# Altium footprint library QFN.PcbLib: 11 footprints
Each footprint in its own frame and in the unit in brackets; x right, y up, seen from the top. Pads: shape width x height; smd on the part's side, far side on the other; paste and mask are expansions set on the pad; w line width, h text height; cw(c..) or ccw(c..) is an arc to the next point about the centre after c.
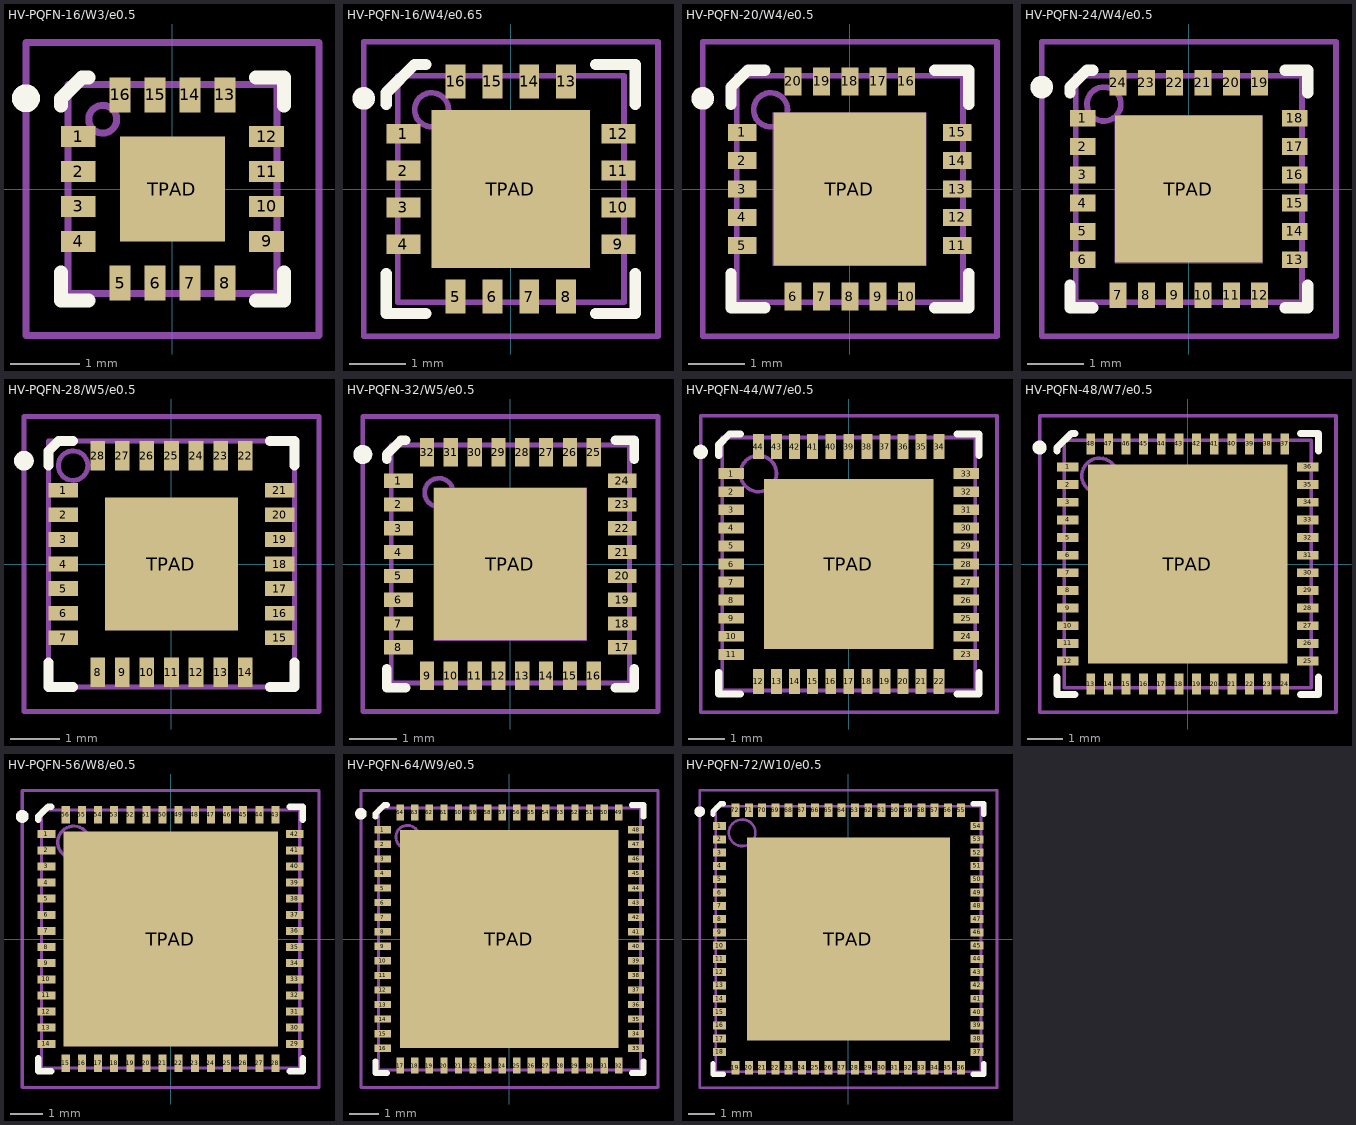
[diagram p0: the footprints below, top view; thin cyan lines are the x and y axes]

## HV-PQFN-16/W3/e0.5 [mm] "QFN-16; JEDEC MO-220-VEED-4; Body 3.00x3.00x0.85mm; Pitch 0.5mm;"
height 0.85
pads (17):
  rect 0.5x0.3 smd mask+0.1: 1(-1.35,0.75) 2(-1.35,0.25) 3(-1.35,-0.25) 4(-1.35,-0.75) 9(1.35,-0.75) 10(1.35,-0.25) 11(1.35,0.25) 12(1.35,0.75)
  rect 0.3x0.5 smd mask+0.1: 5(-0.75,-1.35) 6(-0.25,-1.35) 7(0.25,-1.35) 8(0.75,-1.35) 13(0.75,1.35) 14(0.25,1.35) 15(-0.25,1.35) 16(-0.75,1.35)
  rect 1.5x1.5 smd mask+0.1: TPAD(0,0)
Top Overlay:
  circle w0.2: c-2.1,1.3 r0.1
  lines w0.2: -1.6,-1.2 -1.6,-1.6 -1.2,-1.6 ; -1.6,1.2 -1.6,1.3 -1.3,1.6 -1.2,1.6 ; 1.2,-1.6 1.6,-1.6 1.6,-1.2 ; 1.2,1.6 1.6,1.6 1.6,1.2
Package:
  circle w0.1: c-1,1 r0.2
  lines w0.1: -1.5,-1.5 1.5,-1.5 1.5,1.5 -1.5,1.5 -1.5,-1.5
Courtyard:
  lines w0.1: -0.5,0 0.5,0 ; 0,-0.5 0,0.5 ; -2.1,-2.1 2.1,-2.1 2.1,2.1 -2.1,2.1 -2.1,-2.1
3D body: height 0.85, standoff 0.01, extent -1.5,-1.5 1.5,1.5

## HV-PQFN-16/W4/e0.65 [mm] "QFN-16; JEDEC MO-220-VGGC-3; Body 4.00x4.00x1.00mm; Pitch 0.65mm;"
height 1
pads (17):
  rect 0.6x0.35 smd mask+0.1: 1(-1.9,0.975) 2(-1.9,0.325) 3(-1.9,-0.325) 4(-1.9,-0.975) 9(1.9,-0.975) 10(1.9,-0.325) 11(1.9,0.325) 12(1.9,0.975)
  rect 0.35x0.6 smd mask+0.1: 5(-0.975,-1.9) 6(-0.325,-1.9) 7(0.325,-1.9) 8(0.975,-1.9) 13(0.975,1.9) 14(0.325,1.9) 15(-0.325,1.9) 16(-0.975,1.9)
  rect 2.8x2.8 smd mask+0.1: TPAD(0,0)
Top Overlay:
  circle w0.2: c-2.6,1.6 r0.1
  lines w0.2: -2.2,-1.5 -2.2,-2.2 -1.5,-2.2 ; -2.2,1.5 -2.2,1.7 -1.7,2.2 -1.5,2.2 ; 1.5,-2.2 2.2,-2.2 2.2,-1.5 ; 1.5,2.2 2.2,2.2 2.2,1.5
Package:
  circle w0.1: c-1.4,1.4 r0.3
  lines w0.1: -2,-2 -2,2 2,2 2,-2 -2,-2
Courtyard:
  lines w0.1: -0.5,0 0.5,0 ; 0,-0.5 0,0.5 ; -2.6,-2.6 2.6,-2.6 2.6,2.6 -2.6,2.6 -2.6,-2.6
3D body: height 1, standoff 0, extent -2,-2 2,2

## HV-PQFN-20/W4/e0.5 [mm] "QFN-20; JEDEC MO-220-VGGD-5; Body 4.00x4.00x1.00mm; Pitch 0.5mm;"
height 1
pads (21):
  rect 0.5x0.3 smd mask+0.1: 1(-1.9,1) 2(-1.9,0.5) 3(-1.9,0) 4(-1.9,-0.5) 5(-1.9,-1) 11(1.9,-1) 12(1.9,-0.5) 13(1.9,0) 14(1.9,0.5) 15(1.9,1)
  rect 0.3x0.5 smd mask+0.1: 6(-1,-1.9) 7(-0.5,-1.9) 8(0,-1.9) 9(0.5,-1.9) 10(1,-1.9) 16(1,1.9) 17(0.5,1.9) 18(0,1.9) 19(-0.5,1.9) 20(-1,1.9)
  rect 2.7x2.7 smd paste-1.35 mask+0: TPAD(0,0)
Top Overlay:
  circle w0.2: c-2.6,1.6 r0.1
  lines w0.2: -2.1,-1.5 -2.1,-2.1 -1.5,-2.1 ; -2.1,1.5 -2.1,1.8 -1.8,2.1 -1.5,2.1 ; 1.5,-2.1 2.1,-2.1 2.1,-1.5 ; 1.5,2.1 2.1,2.1 2.1,1.5
Top Paste:
  rectangle: 0.5,-1.15 1.1,-0.85
  rectangle: -0.3,-1.15 0.3,-0.85
  rectangle: -1.1,-1.15 -0.5,-0.85
  rectangle: 0.5,-0.65 1.1,-0.35
  rectangle: -1.1,-0.65 -0.5,-0.35
  rectangle: -0.3,-0.65 0.3,-0.35
  rectangle: 0.5,-0.15 1.1,0.15
  rectangle: -0.3,-0.15 0.3,0.15
  rectangle: -1.1,-0.15 -0.5,0.15
  rectangle: -1.1,0.35 -0.5,0.65
  rectangle: -0.3,0.35 0.3,0.65
  rectangle: 0.5,0.35 1.1,0.65
  rectangle: 0.5,0.85 1.1,1.15
  rectangle: -0.3,0.85 0.3,1.15
  rectangle: -1.1,0.85 -0.5,1.15
Package:
  circle w0.1: c-1.4,1.4 r0.3
  lines w0.1: -2,-2 -2,2 2,2 2,-2 -2,-2
Courtyard:
  lines w0.01: -1.35,-1.35 1.35,-1.35 1.35,1.35 -1.35,1.35 -1.35,-1.35
  lines w0.1: -0.5,0 0.5,0 ; 0,-0.5 0,0.5 ; -2.6,-2.6 -2.6,2.6 2.6,2.6 2.6,-2.6 -2.6,-2.6
  text "COPPER PLANE" at -0.7,1.2 h0.1
3D body: height 1, standoff 0, extent -2,-2 2,2

## HV-PQFN-24/W4/e0.5 [mm] "QFN-24; JEDEC MO-220-VGGD-6; Body 4.00x4.00x1.00mm; Pitch 0.5mm;"
height 1
pads (25):
  rect 0.45x0.3 smd mask+0.1: 1(-1.875,1.25) 2(-1.875,0.75) 3(-1.875,0.25) 4(-1.875,-0.25) 5(-1.875,-0.75) 6(-1.875,-1.25) 13(1.875,-1.25) 14(1.875,-0.75) 15(1.875,-0.25) 16(1.875,0.25) 17(1.875,0.75) 18(1.875,1.25)
  rect 0.3x0.45 smd mask+0.1: 7(-1.25,-1.875) 8(-0.75,-1.875) 9(-0.25,-1.875) 10(0.25,-1.875) 11(0.75,-1.875) 12(1.25,-1.875) 19(1.25,1.875) 20(0.75,1.875) 21(0.25,1.875) 22(-0.25,1.875) 23(-0.75,1.875) 24(-1.25,1.875)
  rect 2.6x2.6 smd paste-1.3 mask+0: TPAD(0,0)
Top Overlay:
  circle w0.2: c-2.6,1.8 r0.1
  lines w0.2: -2.1,-1.7 -2.1,-2.1 -1.7,-2.1 ; -2.1,1.7 -2.1,1.8 -1.8,2.1 -1.7,2.1 ; 1.7,-2.1 2.1,-2.1 2.1,-1.7 ; 1.7,2.1 2.1,2.1 2.1,1.7
Top Paste:
  rectangle: -0.95,0.85 -0.5,1.15
  rectangle: -0.225,0.85 0.225,1.15
  rectangle: 0.5,0.85 0.95,1.15
  rectangle: 0.5,0.35 0.95,0.65
  rectangle: -0.225,0.35 0.225,0.65
  rectangle: -0.95,0.35 -0.5,0.65
  rectangle: -0.95,-0.15 -0.5,0.15
  rectangle: -0.225,-0.15 0.225,0.15
  rectangle: 0.5,-0.15 0.95,0.15
  rectangle: -0.95,-0.65 -0.5,-0.35
  rectangle: -0.225,-0.65 0.225,-0.35
  rectangle: 0.5,-0.65 0.95,-0.35
  rectangle: -0.95,-1.15 -0.5,-0.85
  rectangle: -0.225,-1.15 0.225,-0.85
  rectangle: 0.5,-1.15 0.95,-0.85
Package:
  circle w0.1: c-1.5,1.5 r0.3
  lines w0.1: -2,-2 2,-2 2,2 -2,2 -2,-2
Courtyard:
  lines w0.01: -1.3,-1.3 1.3,-1.3 1.3,1.3 -1.3,1.3 -1.3,-1.3
  lines w0.1: -0.5,0 0.5,0 ; 0,-0.5 0,0.5 ; -2.6,-2.6 2.6,-2.6 2.6,2.6 -2.6,2.6 -2.6,-2.6
  text "COPPER PLANE" at -0.6,1.2 h0.1
3D body: height 1, standoff 0, extent -2,-2 2,2

## HV-PQFN-28/W5/e0.5 [mm] "QFN-28; JEDEC MO-220-VHHD-1; Body 5.00x5.00x1.00mm; Pitch 0.5mm;"
height 1
pads (29):
  rect 0.6x0.3 smd mask+0.1: 1(-2.2,1.5) 2(-2.2,1) 3(-2.2,0.5) 4(-2.2,0) 5(-2.2,-0.5) 6(-2.2,-1) 7(-2.2,-1.5) 15(2.2,-1.5) 16(2.2,-1) 17(2.2,-0.5) 18(2.2,0) 19(2.2,0.5) 20(2.2,1) 21(2.2,1.5)
  rect 0.3x0.6 smd mask+0.1: 8(-1.5,-2.2) 9(-1,-2.2) 10(-0.5,-2.2) 11(0,-2.2) 12(0.5,-2.2) 13(1,-2.2) 14(1.5,-2.2) 22(1.5,2.2) 23(1,2.2) 24(0.5,2.2) 25(0,2.2) 26(-0.5,2.2) 27(-1,2.2) 28(-1.5,2.2)
  rect 2.7x2.7 smd mask+0.1: TPAD(0,0)
Top Overlay:
  circle w0.2: c-3,2.1 r0.1
  lines w0.2: -2.5,-2 -2.5,-2.5 -2,-2.5 ; -2.5,2 -2.5,2.3 -2.3,2.5 -2,2.5 ; 2,-2.5 2.5,-2.5 2.5,-2 ; 2,2.5 2.5,2.5 2.5,2
Package:
  circle w0.1: c-2,2 r0.3
  lines w0.1: -2.5,-2.5 -2.5,2.5 2.5,2.5 2.5,-2.5 -2.5,-2.5
Courtyard:
  lines w0.1: -0.5,0 0.5,0 ; 0,-0.5 0,0.5 ; -3,-3 -3,3 3,3 3,-3 -3,-3
3D body: height 1, standoff 0, extent -2.5,-2.5 2.5,2.5

## HV-PQFN-32/W5/e0.5 [mm] "QFN-32; JEDEC MO-220-VHHD-5; Body 5.0x5.0x1.00mm; Pitch 0.5mm"
height 1
pads (33):
  rect 0.6x0.3 smd mask+0.1: 1(-2.35,1.75) 2(-2.35,1.25) 3(-2.35,0.75) 4(-2.35,0.25) 5(-2.35,-0.25) 6(-2.35,-0.75) 7(-2.35,-1.25) 8(-2.35,-1.75) 17(2.35,-1.75) 18(2.35,-1.25) 19(2.35,-0.75) 20(2.35,-0.25) 21(2.35,0.25) 22(2.35,0.75) 23(2.35,1.25) 24(2.35,1.75)
  rect 0.3x0.6 smd mask+0.1: 9(-1.75,-2.35) 10(-1.25,-2.35) 11(-0.75,-2.35) 12(-0.25,-2.35) 13(0.25,-2.35) 14(0.75,-2.35) 15(1.25,-2.35) 16(1.75,-2.35) 25(1.75,2.35) 26(1.25,2.35) 27(0.75,2.35) 28(0.25,2.35) 29(-0.25,2.35) 30(-0.75,2.35) 31(-1.25,2.35) 32(-1.75,2.35)
  rect 3.2x3.2 smd paste-1.6 mask+0: TPAD(0,0)
Top Overlay:
  circle w0.2: c-3.1,2.3 r0.1
  lines w0.2: -2.6,-2.2 -2.6,-2.6 -2.2,-2.6 ; -2.6,2.2 -2.6,2.3 -2.3,2.6 -2.2,2.6 ; 2.2,-2.6 2.6,-2.6 2.6,-2.2 ; 2.2,2.6 2.6,2.6 2.6,2.2
Top Paste:
  rectangle: 0.7,-1.4 1.3,-1.1
  rectangle: -0.3,-1.4 0.3,-1.1
  rectangle: -1.3,-1.4 -0.7,-1.1
  rectangle: 0.7,-0.9 1.3,-0.6
  rectangle: -0.3,-0.9 0.3,-0.6
  rectangle: -1.3,-0.9 -0.7,-0.6
  rectangle: 0.7,-0.4 1.3,-0.1
  rectangle: -0.3,-0.4 0.3,-0.1
  rectangle: -1.3,-0.4 -0.7,-0.1
  rectangle: 0.7,0.1 1.3,0.4
  rectangle: -0.3,0.1 0.3,0.4
  rectangle: -1.3,0.1 -0.7,0.4
  rectangle: 0.7,0.6 1.3,0.9
  rectangle: -0.3,0.6 0.3,0.9
  rectangle: -1.3,0.6 -0.7,0.9
  rectangle: 0.7,1.1 1.3,1.4
  rectangle: -0.3,1.1 0.3,1.4
  rectangle: -1.3,1.1 -0.7,1.4
Package:
  circle w0.1: c-1.5,1.5 r0.3
  lines w0.1: -2.5,-2.5 2.5,-2.5 2.5,2.5 -2.5,2.5 -2.5,-2.5
Courtyard:
  lines w0.01: -1.6,-1.6 -1.6,1.6 1.6,1.6 1.6,-1.6 -1.6,-1.6
  lines w0.1: -0.5,0 0.5,0 ; 0,-0.5 0,0.5 ; -3.1,-3.1 3.1,-3.1 3.1,3.1 -3.1,3.1 -3.1,-3.1
  text "COPPER PLANE" at -0.6,1.5 h0.1
3D body: height 1, standoff 0, extent -2.5,-2.5 2.5,2.5

## HV-PQFN-44/W7/e0.5 [mm] "QFN-44; JEDEC MO-220-WKKD-1; Body 7.0x7.0x0.85mm; Pitch 0.5mm"
height 0.85
pads (45):
  rect 0.7x0.3 smd mask+0.1: 1(-3.25,2.5) 2(-3.25,2) 3(-3.25,1.5) 4(-3.25,1) 5(-3.25,0.5) 6(-3.25,0) 7(-3.25,-0.5) 8(-3.25,-1) 9(-3.25,-1.5) 10(-3.25,-2) 11(-3.25,-2.5) 23(3.25,-2.5) 24(3.25,-2) 25(3.25,-1.5) 26(3.25,-1) 27(3.25,-0.5) 28(3.25,0) 29(3.25,0.5) 30(3.25,1) 31(3.25,1.5) 32(3.25,2) 33(3.25,2.5)
  rect 0.3x0.7 smd mask+0.1: 12(-2.5,-3.25) 13(-2,-3.25) 14(-1.5,-3.25) 15(-1,-3.25) 16(-0.5,-3.25) 17(0,-3.25) 18(0.5,-3.25) 19(1,-3.25) 20(1.5,-3.25) 21(2,-3.25) 22(2.5,-3.25) 34(2.5,3.25) 35(2,3.25) 36(1.5,3.25) 37(1,3.25) 38(0.5,3.25) 39(0,3.25) 40(-0.5,3.25) 41(-1,3.25) 42(-1.5,3.25) 43(-2,3.25) 44(-2.5,3.25)
  rect 4.7x4.7 smd mask+0.1: TPAD(0,0)
Top Overlay:
  circle w0.2: c-4.1,3.1 r0.1
  lines w0.2: -3.6,-3 -3.6,-3.6 -3,-3.6 ; -3.6,3 -3.6,3.3 -3.3,3.6 -3,3.6 ; 3,-3.6 3.6,-3.6 3.6,-3 ; 3,3.6 3.6,3.6 3.6,3
Package:
  circle w0.1: c-2.5,2.5 r0.5
  lines w0.1: -3.5,-3.5 3.5,-3.5 3.5,3.5 -3.5,3.5 -3.5,-3.5
Courtyard:
  lines w0.1: -0.5,0 0.5,0 ; 0,-0.5 0,0.5 ; -4.1,-4.1 -4.1,4.1 4.1,4.1 4.1,-4.1 -4.1,-4.1
3D body: height 0.85, standoff 0.02, extent -3.5,-3.5 3.5,3.5

## HV-PQFN-48/W7/e0.5 [mm] "QFN-48; JEDEC MO-220-VKKD-4; Body 7.0x7.0x1.00mm; Pitch 0.5mm"
height 1
pads (49):
  rect 0.6x0.25 smd mask+0.1: 1(-3.4,2.75) 2(-3.4,2.25) 3(-3.4,1.75) 4(-3.4,1.25) 5(-3.4,0.75) 6(-3.4,0.25) 7(-3.4,-0.25) 8(-3.4,-0.75) 9(-3.4,-1.25) 10(-3.4,-1.75) 11(-3.4,-2.25) 12(-3.4,-2.75) 25(3.4,-2.75) 26(3.4,-2.25) 27(3.4,-1.75) 28(3.4,-1.25) 29(3.4,-0.75) 30(3.4,-0.25) 31(3.4,0.25) 32(3.4,0.75) 33(3.4,1.25) 34(3.4,1.75) 35(3.4,2.25) 36(3.4,2.75)
  rect 0.25x0.6 smd mask+0.1: 13(-2.75,-3.4) 14(-2.25,-3.4) 15(-1.75,-3.4) 16(-1.25,-3.4) 17(-0.75,-3.4) 18(-0.25,-3.4) 19(0.25,-3.4) 20(0.75,-3.4) 21(1.25,-3.4) 22(1.75,-3.4) 23(2.25,-3.4) 24(2.75,-3.4) 37(2.75,3.4) 38(2.25,3.4) 39(1.75,3.4) 40(1.25,3.4) 41(0.75,3.4) 42(0.25,3.4) 43(-0.25,3.4) 44(-0.75,3.4) 45(-1.25,3.4) 46(-1.75,3.4) 47(-2.25,3.4) 48(-2.75,3.4)
  rect 5.65x5.65 smd mask+0.1: TPAD(0,0)
Top Overlay:
  circle w0.2: c-4.2,3.3 r0.1
  lines w0.2: -3.7,-3.2 -3.7,-3.7 -3.2,-3.7 ; -3.7,3.2 -3.7,3.3 -3.3,3.7 -3.2,3.7 ; 3.2,-3.7 3.7,-3.7 3.7,-3.2 ; 3.2,3.7 3.7,3.7 3.7,3.2
Package:
  circle w0.1: c-2.5,2.5 r0.5
  lines w0.1: -3.5,-3.5 -3.5,3.5 3.5,3.5 3.5,-3.5 -3.5,-3.5
Courtyard:
  lines w0.1: -0.5,0 0.5,0 ; 0,-0.5 0,0.5 ; -4.2,-4.2 -4.2,4.2 4.2,4.2 4.2,-4.2 -4.2,-4.2
3D body: height 1, standoff 0, extent -3.5,-3.5 3.5,3.5

## HV-PQFN-56/W8/e0.5 [mm] "QFN-56; JEDEC MO-220-VLLD-5; Body 8.0x8.0x1.00mm; Pitch 0.5mm"
height 1
pads (57):
  rect 0.55x0.25 smd mask+0.1: 1(-3.85,3.25) 2(-3.85,2.75) 3(-3.85,2.25) 4(-3.85,1.75) 5(-3.85,1.25) 6(-3.85,0.75) 7(-3.85,0.25) 8(-3.85,-0.25) 9(-3.85,-0.75) 10(-3.85,-1.25) 11(-3.85,-1.75) 12(-3.85,-2.25) 13(-3.85,-2.75) 14(-3.85,-3.25) 29(3.85,-3.25) 30(3.85,-2.75) 31(3.85,-2.25) 32(3.85,-1.75) 33(3.85,-1.25) 34(3.85,-0.75) 35(3.85,-0.25) 36(3.85,0.25) 37(3.85,0.75) 38(3.85,1.25) 39(3.85,1.75) 40(3.85,2.25) 41(3.85,2.75) 42(3.85,3.25)
  rect 0.25x0.55 smd mask+0.1: 15(-3.25,-3.85) 16(-2.75,-3.85) 17(-2.25,-3.85) 18(-1.75,-3.85) 19(-1.25,-3.85) 20(-0.75,-3.85) 21(-0.25,-3.85) 22(0.25,-3.85) 23(0.75,-3.85) 24(1.25,-3.85) 25(1.75,-3.85) 26(2.25,-3.85) 27(2.75,-3.85) 28(3.25,-3.85) 43(3.25,3.85) 44(2.75,3.85) 45(2.25,3.85) 46(1.75,3.85) 47(1.25,3.85) 48(0.75,3.85) 49(0.25,3.85) 50(-0.25,3.85) 51(-0.75,3.85) 52(-1.25,3.85) 53(-1.75,3.85) 54(-2.25,3.85) 55(-2.75,3.85) 56(-3.25,3.85)
  rect 6.65x6.65 smd mask+0.1: TPAD(0,0)
Top Overlay:
  circle w0.2: c-4.6,3.8 r0.1
  lines w0.2: -4.1,-3.7 -4.1,-4.1 -3.7,-4.1 ; -4.1,3.7 -4.1,3.8 -3.8,4.1 -3.7,4.1 ; 3.7,-4.1 4.1,-4.1 4.1,-3.7 ; 3.7,4.1 4.1,4.1 4.1,3.7
Package:
  circle w0.1: c-3,3 r0.5
  lines w0.1: -4,-4 4,-4 4,4 -4,4 -4,-4
Courtyard:
  lines w0.1: -0.5,0 0.5,0 ; 0,-0.5 0,0.5 ; -4.6,-4.6 -4.6,4.6 4.6,4.6 4.6,-4.6 -4.6,-4.6
3D body: height 0, standoff 0, extent -4,-4 4,4

## HV-PQFN-64/W9/e0.5 [mm] "QFN-64; JEDEC MO-220-VMMD-4; Body 9.0x9.0x1.00mm; Pitch 0.5mm"
height 1
pads (65):
  rect 0.55x0.25 smd mask+0.1: 1(-4.35,3.75) 2(-4.35,3.25) 3(-4.35,2.75) 4(-4.35,2.25) 5(-4.35,1.75) 6(-4.35,1.25) 7(-4.35,0.75) 8(-4.35,0.25) 9(-4.35,-0.25) 10(-4.35,-0.75) 11(-4.35,-1.25) 12(-4.35,-1.75) 13(-4.35,-2.25) 14(-4.35,-2.75) 15(-4.35,-3.25) 16(-4.35,-3.75) 33(4.35,-3.75) 34(4.35,-3.25) 35(4.35,-2.75) 36(4.35,-2.25) 37(4.35,-1.75) 38(4.35,-1.25) 39(4.35,-0.75) 40(4.35,-0.25) 41(4.35,0.25) 42(4.35,0.75) 43(4.35,1.25) 44(4.35,1.75) 45(4.35,2.25) 46(4.35,2.75) 47(4.35,3.25) 48(4.35,3.75)
  rect 0.25x0.55 smd mask+0.1: 17(-3.75,-4.35) 18(-3.25,-4.35) 19(-2.75,-4.35) 20(-2.25,-4.35) 21(-1.75,-4.35) 22(-1.25,-4.35) 23(-0.75,-4.35) 24(-0.25,-4.35) 25(0.25,-4.35) 26(0.75,-4.35) 27(1.25,-4.35) 28(1.75,-4.35) 29(2.25,-4.35) 30(2.75,-4.35) 31(3.25,-4.35) 32(3.75,-4.35) 49(3.75,4.35) 50(3.25,4.35) 51(2.75,4.35) 52(2.25,4.35) 53(1.75,4.35) 54(1.25,4.35) 55(0.75,4.35) 56(0.25,4.35) 57(-0.25,4.35) 58(-0.75,4.35) 59(-1.25,4.35) 60(-1.75,4.35) 61(-2.25,4.35) 62(-2.75,4.35) 63(-3.25,4.35) 64(-3.75,4.35)
  rect 7.5x7.5 smd mask+0.1: TPAD(0,0)
Top Overlay:
  circle w0.2: c-5.1,4.3 r0.1
  lines w0.2: -4.6,-4.2 -4.6,-4.6 -4.2,-4.6 ; -4.6,4.2 -4.6,4.3 -4.3,4.6 -4.2,4.6 ; 4.2,-4.6 4.6,-4.6 4.6,-4.2 ; 4.2,4.6 4.6,4.6 4.6,4.2
Package:
  circle w0.1: c-3.5,3.5 r0.4
  lines w0.1: -4.5,-4.5 4.5,-4.5 4.5,4.5 -4.5,4.5 -4.5,-4.5
Courtyard:
  lines w0.1: -0.5,0 0.5,0 ; 0,-0.5 0,0.5 ; -5.1,-5.1 -5.1,5.1 5.1,5.1 5.1,-5.1 -5.1,-5.1
3D body: height 0, standoff 0, extent -4.5,-4.5 4.5,4.5

## HV-PQFN-72/W10/e0.5 [mm] "QFN-72; JEDEC MO-220-VMMD-4; Body 10.0x10.0x0.85mm; Pitch 0.5mm"
height 0.85
pads (73):
  rect 0.5x0.3 smd: 1(-4.85,4.25)
  rect 0.5x0.3 smd mask+0.1: 2(-4.85,3.75) 3(-4.85,3.25) 4(-4.85,2.75) 5(-4.85,2.25) 6(-4.85,1.75) 7(-4.85,1.25) 8(-4.85,0.75) 9(-4.85,0.25) 10(-4.85,-0.25) 11(-4.85,-0.75) 12(-4.85,-1.25) 13(-4.85,-1.75) 14(-4.85,-2.25) 15(-4.85,-2.75) 16(-4.85,-3.25) 17(-4.85,-3.75) 18(-4.85,-4.25) 37(4.85,-4.25) 38(4.85,-3.75) 39(4.85,-3.25) 40(4.85,-2.75) 41(4.85,-2.25) 42(4.85,-1.75) 43(4.85,-1.25) 44(4.85,-0.75) 45(4.85,-0.25) 46(4.85,0.25) 47(4.85,0.75) 48(4.85,1.25) 49(4.85,1.75) 50(4.85,2.25) 51(4.85,2.75) 52(4.85,3.25) 53(4.85,3.75) 54(4.85,4.25)
  rect 0.3x0.5 smd mask+0.1: 19(-4.25,-4.85) 20(-3.75,-4.85) 21(-3.25,-4.85) 22(-2.75,-4.85) 23(-2.25,-4.85) 24(-1.75,-4.85) 25(-1.25,-4.85) 26(-0.75,-4.85) 27(-0.25,-4.85) 28(0.25,-4.85) 29(0.75,-4.85) 30(1.25,-4.85) 31(1.75,-4.85) 32(2.25,-4.85) 33(2.75,-4.85) 34(3.25,-4.85) 35(3.75,-4.85) 36(4.25,-4.85) 55(4.25,4.85) 56(3.75,4.85) 57(3.25,4.85) 58(2.75,4.85) 59(2.25,4.85) 60(1.75,4.85) 61(1.25,4.85) 62(0.75,4.85) 63(0.25,4.85) 64(-0.25,4.85) 65(-0.75,4.85) 66(-1.25,4.85) 67(-1.75,4.85) 68(-2.25,4.85) 69(-2.75,4.85) 70(-3.25,4.85) 71(-3.75,4.85) 72(-4.25,4.85)
  rect 7.65x7.65 smd mask+0.1: TPAD(0,0)
Top Overlay:
  circle w0.2: c-5.6,4.8 r0.1
  lines w0.2: -5.1,-4.7 -5.1,-5.1 -4.7,-5.1 ; -5.1,4.7 -5.1,4.8 -4.8,5.1 -4.7,5.1 ; 4.7,-5.1 5.1,-5.1 5.1,-4.7 ; 4.7,5.1 5.1,5.1 5.1,4.7
Package:
  circle w0.1: c-4,4 r0.5
  lines w0.1: -5,-5 -5,5 5,5 5,-5 -5,-5
Courtyard:
  lines w0.1: -0.5,0 0.5,0 ; 0,-0.5 0,0.5 ; -5.6,-5.6 5.6,-5.6 5.6,5.6 -5.6,5.6 -5.6,-5.6
3D body: height 1, standoff 0, extent -5,-5 5,5